# EAGLE library part DS3502U+ (library DS3502U)
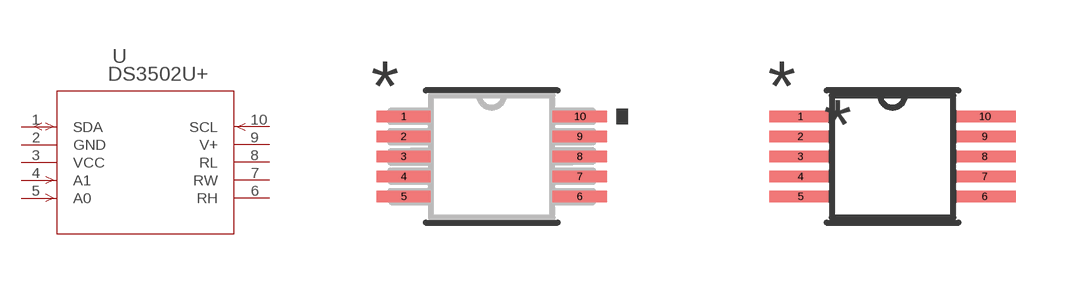
[diagram p0: symbol with the pads of 21-0061_U10+2_MXM; footprints 21-0061_U10+2_MXM, 21-0061_U10+2_MXM-M]

Designator prefix U

## DS3502U+ (COPYRIGHT: Copyright (C) 2023 Ultra Librarian. All rights reserved.; MANUFACTURER_PART_NUMBER: ds3502u+; MFR_NAME: Analog Devices Inc)  [21-0061_U10+2_MXM]
1  SDA
2  GND  pwr
3  VCC  pwr
4  A1  in
5  A0  in
6  RH  pas
7  RW  pas
8  RL  pas
9  V+  pwr
10  SCL  in

## DS3502U+21-0061_U10+2_MXM-M (COPYRIGHT: Copyright (C) 2023 Ultra Librarian. All rights reserved.; MANUFACTURER_PART_NUMBER: ds3502u+; MFR_NAME: Analog Devices Inc)  [21-0061_U10+2_MXM-M]
Pads as for 21-0061_U10+2_MXM

## DS3502U+21-0061_U10+2_MXM-L (COPYRIGHT: Copyright (C) 2023 Ultra Librarian. All rights reserved.; MANUFACTURER_PART_NUMBER: ds3502u+; MFR_NAME: Analog Devices Inc)  [21-0061_U10+2_MXM-L]
Pads as for 21-0061_U10+2_MXM

## Footprint 21-0061_U10+2_MXM (pad centres in mm)
smd 1.359 x 0.279: 1 -2.203,1; 2 -2.203,0.5; 3 -2.203,0; 4 -2.203,-0.5; 5 -2.203,-1; 6 2.203,-1; 7 2.203,-0.5; 8 2.203,0; 9 2.203,0.5; 10 2.203,1

## Footprint 21-0061_U10+2_MXM-M (pad centres in mm)
smd 1.562 x 0.279: 1 -2.305,1; 2 -2.305,0.5; 3 -2.305,0; 4 -2.305,-0.5; 5 -2.305,-1; 6 2.305,-1; 7 2.305,-0.5; 8 2.305,0; 9 2.305,0.5; 10 2.305,1

## Footprint 21-0061_U10+2_MXM-L (pad centres in mm)
smd 1.118 x 0.229: 1 -2.121,1; 2 -2.121,0.5; 3 -2.121,0; 4 -2.121,-0.5; 5 -2.121,-1; 6 2.121,-1; 7 2.121,-0.5; 8 2.121,0; 9 2.121,0.5; 10 2.121,1